# EAGLE library part 62104421821 (library Wuerth_Elektronik_eiCan_Pin_&_Socked_Headers_v1.3)
WR-PHD 2.00mm Dual SMT Socket Header Low Profile, 44 Pins
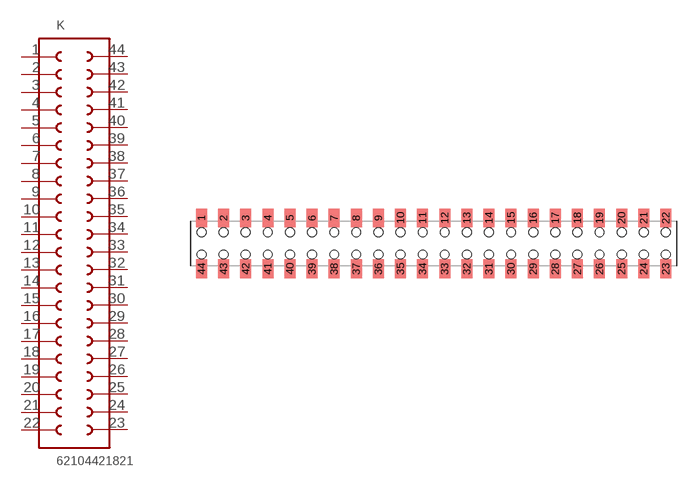
[diagram p320: symbol with the pads of 62104421821; footprint 62104421821]

Designator prefix K

## 62104421821  [62104421821]
1  1  pas
2  2  pas
3  3  pas
4  4  pas
5  5  pas
6  6  pas
7  7  pas
8  8  pas
9  9  pas
10  10  pas
11  11  pas
12  12  pas
13  13  pas
14  14  pas
15  15  pas
16  16  pas
17  17  pas
18  18  pas
19  19  pas
20  20  pas
21  21  pas
22  22  pas
23  23  pas
24  24  pas
25  25  pas
26  26  pas
27  27  pas
28  28  pas
29  29  pas
30  30  pas
31  31  pas
32  32  pas
33  33  pas
34  34  pas
35  35  pas
36  36  pas
37  37  pas
38  38  pas
39  39  pas
40  40  pas
41  41  pas
42  42  pas
43  43  pas
44  44  pas

## Footprint 62104421821 (pad centres in mm)
WR-PHD 2.00mm Dual SMT Socket Header Low Profile, 44 Pins
smd 1 x 1.7: 1 -21,2.3; 2 -19,2.3; 3 -17,2.3; 4 -15,2.3; 5 -13,2.3; 6 -11,2.3; 7 -9,2.3; 8 -7,2.3; 9 -5,2.3; 10 -3,2.3; 11 -1,2.3; 12 1,2.3; 13 3,2.3; 14 5,2.3; 15 7,2.3; 16 9,2.3; 17 11,2.3; 18 13,2.3; 19 15,2.3; 20 17,2.3; 21 19,2.3; 22 21,2.3; 23 21,-2.3; 24 19,-2.3; 25 17,-2.3; 26 15,-2.3; 27 13,-2.3; 28 11,-2.3; 29 9,-2.3; 30 7,-2.3; 31 5,-2.3; 32 3,-2.3; 33 1,-2.3; 34 -1,-2.3; 35 -3,-2.3; 36 -5,-2.3; 37 -7,-2.3; 38 -9,-2.3; 39 -11,-2.3; 40 -13,-2.3; 41 -15,-2.3; 42 -17,-2.3; 43 -19,-2.3; 44 -21,-2.3
hole 0.8 at -19,1
hole 0.8 at -21,1
hole 0.8 at -21,-1
hole 0.8 at -19,-1
hole 0.8 at -17,1
hole 0.8 at -17,-1
hole 0.8 at -15,1
hole 0.8 at -13,1
hole 0.8 at -11,1
hole 0.8 at -9,1
hole 0.8 at -9,-1
hole 0.8 at -11,-1
hole 0.8 at -13,-1
hole 0.8 at -15,-1
hole 0.8 at -7,1
hole 0.8 at -5,1
hole 0.8 at -3,1
hole 0.8 at -7,-1
hole 0.8 at -5,-1
hole 0.8 at -3,-1
hole 0.8 at -1,1
hole 0.8 at 1,1
hole 0.8 at 1,-1
hole 0.8 at -1,-1
hole 0.8 at 3,1
hole 0.8 at 5,1
hole 0.8 at 7,1
hole 0.8 at 9,1
hole 0.8 at 9,-1
hole 0.8 at 7,-1
hole 0.8 at 5,-1
hole 0.8 at 3,-1
hole 0.8 at 11,1
hole 0.8 at 13,1
hole 0.8 at 15,1
hole 0.8 at 17,1
hole 0.8 at 19,1
hole 0.8 at 21,1
hole 0.8 at 21,-1
hole 0.8 at 19,-1
hole 0.8 at 17,-1
hole 0.8 at 15,-1
hole 0.8 at 11,-1
hole 0.8 at 13,-1